# Altium footprint library RELAY.PcbLib: 2 footprints
Each footprint in its own frame and in the unit in brackets; x right, y up, seen from the top. Pads: shape width x height; smd on the part's side, far side on the other; paste and mask are expansions set on the pad; w line width, h text height; cw(c..) or ccw(c..) is an arc to the next point about the centre after c.
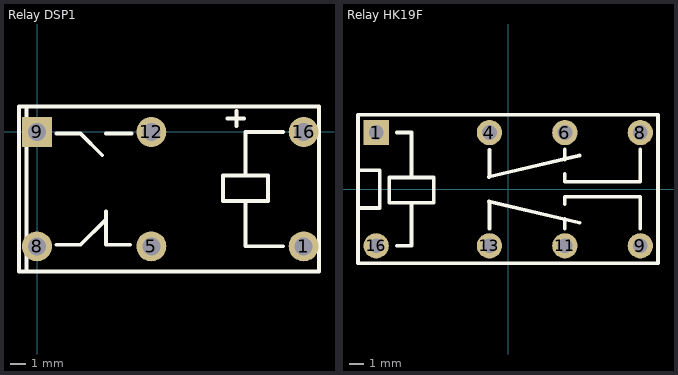
[diagram p0: the footprints below, top view; thin cyan lines are the x and y axes]

## Relay DSP1 [mm]
height 10.5
pads (6):
  round 2 hole 1.2: 1(17.78,-7.62) 5(7.62,-7.62) 8(0,-7.62) 12(7.62,0) 16(17.78,0)
  rect 2x2 hole 1.2: 9(0,0)
Top Overlay:
  lines w0.254: -0.7,-9.3 -0.7,1.7 ; 1.3,-7.52 2.9,-7.52 4.56,-5.86 ; 1.3,-0.1 2.9,-0.1 4.35,-1.55 ; 4.6,-5.3 4.6,-7.52 6.2,-7.52 ; 4.6,-0.1 6.3,-0.1 ; 12.7,0.9 13.8,0.9 ; 13.3,0.4 13.3,1.4 ; 13.9,-2.9 13.9,0 16.4,0 ; 14,-4.6 13.9,-4.7 13.9,-7.62 16.4,-7.62 ; -1.2,-9.3 18.8,-9.3 18.8,1.7 -1.2,1.7 -1.2,-9.3 ; 12.4,-4.6 15.4,-4.6 15.4,-2.9 12.4,-2.9 12.4,-4.6
3D body: height 10.2, standoff 0.2, extent -1.2,-9.3 18.8,1.7

## Relay HK19F [mm]
height 12
pads (8):
  rect 1.7x1.7 hole 1: 1(-8.873,3.797)
  round 1.7 hole 1: 4(-1.253,3.797) 6(3.827,3.797) 8(8.907,3.797) 9(8.907,-3.823) 11(3.827,-3.823) 13(-1.253,-3.823) 16(-8.873,-3.823)
Top Overlay:
  lines w0.254: -10.086,-1.283 -8.631,-1.283 -8.631,1.257 -10.086,1.257 ; -7.493,-3.823 -6.493,-3.823 -6.493,-0.923 ; -7.493,3.797 -6.493,3.797 -6.493,0.777 ; -1.272,-0.842 4.822,-2.28 ; -1.272,0.816 4.822,2.254 ; -1.253,-2.655 -1.253,-0.877 ; -1.253,0.85 -1.253,2.628 ; 3.827,-2.68 3.827,-2.02 ; 3.827,-1.029 3.827,-0.521 8.907,-0.521 8.907,-2.68 ; 3.827,1.003 3.827,0.495 8.907,0.495 8.907,2.654 ; 3.827,1.993 3.827,2.654 ; -10.1,-5 10.1,-5 10.1,5 -10.1,5 -10.1,-5 ; -7.993,-0.923 -4.993,-0.923 -4.993,0.777 -7.993,0.777 -7.993,-0.923
3D body "User Library-OMRON G5V-2 - Relay Chico (1).step": height 12.01, standoff -3.5, extent -10.238,-5 10.262,5